# EAGLE library part MICROSD_SMALL_READER (library CRD)
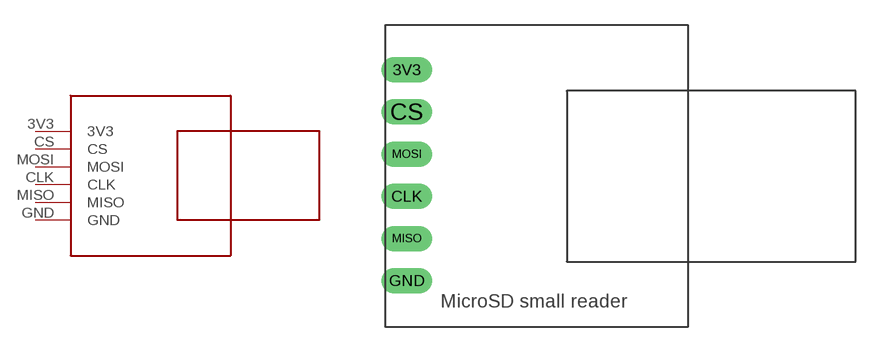
[diagram p5: symbol with the pads of MICROSD_SMALL_READER_FOOTPRINT; footprint MICROSD_SMALL_READER_FOOTPRINT]

Designator prefix -

## MICROSD_SMALL_READER  [MICROSD_SMALL_READER_FOOTPRINT]
3V3  3V3
CLK  CLK
CS  CS
GND  GND
MISO  MISO
MOSI  MOSI

## Footprint MICROSD_SMALL_READER_FOOTPRINT (pad centres in mm)
drill 1.016 long: 3V3 -7.239,6.35; CLK -7.239,-1.27; CS -7.239,3.81; GND -7.239,-6.35; MISO -7.239,-3.81; MOSI -7.239,1.27